# EAGLE library part RGB_LED_MATRIX (library DWM)
RGB LED MATRIX GTM2088ARGB-28
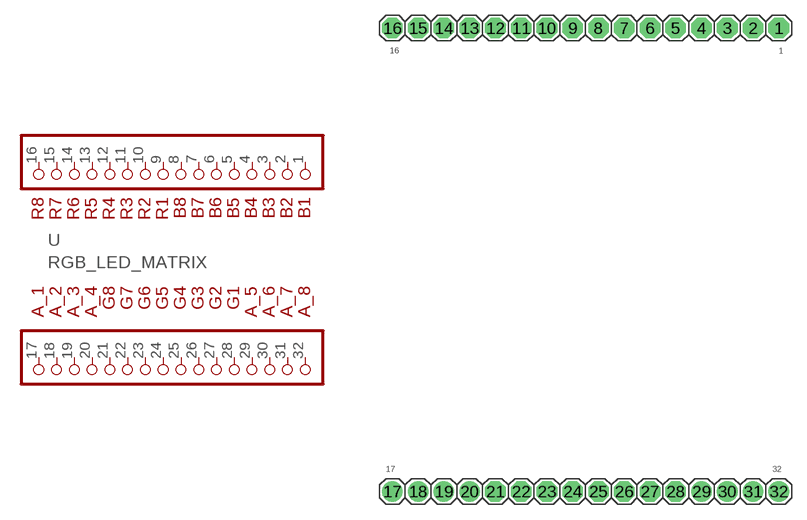
[diagram p1: symbol with the pads of GTM2088ARGB-28; footprint GTM2088ARGB-28]

Designator prefix -

## RGB_LED_MATRIX  [GTM2088ARGB-28]
1  1  pas
2  2  pas
3  3  pas
4  4  pas
5  5  pas
6  6  pas
7  7  pas
8  8  pas
9  9  pas
10  10  pas
11  11  pas
12  12  pas
13  13  pas
14  14  pas
15  15  pas
16  16  pas
17  17  pas
18  18  pas
19  19  pas
20  20  pas
21  21  pas
22  22  pas
23  23  pas
24  24  pas
25  25  pas
26  26  pas
27  27  pas
28  28  pas
29  29  pas
30  30  pas
31  31  pas
32  32  pas

## Footprint GTM2088ARGB-28 (pad centres in mm)
PIN HEADER
drill 1.016 pad 2.032 octagon: 1 19.05,27.272; 2 16.51,27.272; 3 13.97,27.272; 4 11.43,27.272; 5 8.89,27.272; 6 6.35,27.272; 7 3.81,27.272; 8 1.27,27.272; 9 -1.27,27.272; 10 -3.81,27.272; 11 -6.35,27.272; 12 -8.89,27.272; 13 -11.43,27.272; 14 -13.97,27.272; 15 -16.51,27.272; 16 -19.05,27.272; 21 -8.89,-18.43; 22 -6.35,-18.43; 23 -3.81,-18.43; 24 -1.27,-18.43; 25 1.27,-18.43; 26 3.81,-18.43; 27 6.35,-18.43; 28 8.89,-18.43
drill 1.016 pad 2.032: 17 -19.05,-18.43; 18 -16.51,-18.43; 19 -13.97,-18.43; 20 -11.43,-18.43; 29 11.43,-18.43; 30 13.97,-18.43; 31 16.51,-18.43; 32 19.05,-18.43